# Altium footprint library RP3_V302.PcbLib: 39 footprints (part 3 of 3)
Each footprint in its own frame and in the unit in brackets; x right, y up, seen from the top. Pads: shape width x height; smd on the part's side, far side on the other; paste and mask are expansions set on the pad; w line width, h text height; cw(c..) or ccw(c..) is an arc to the next point about the centre after c.
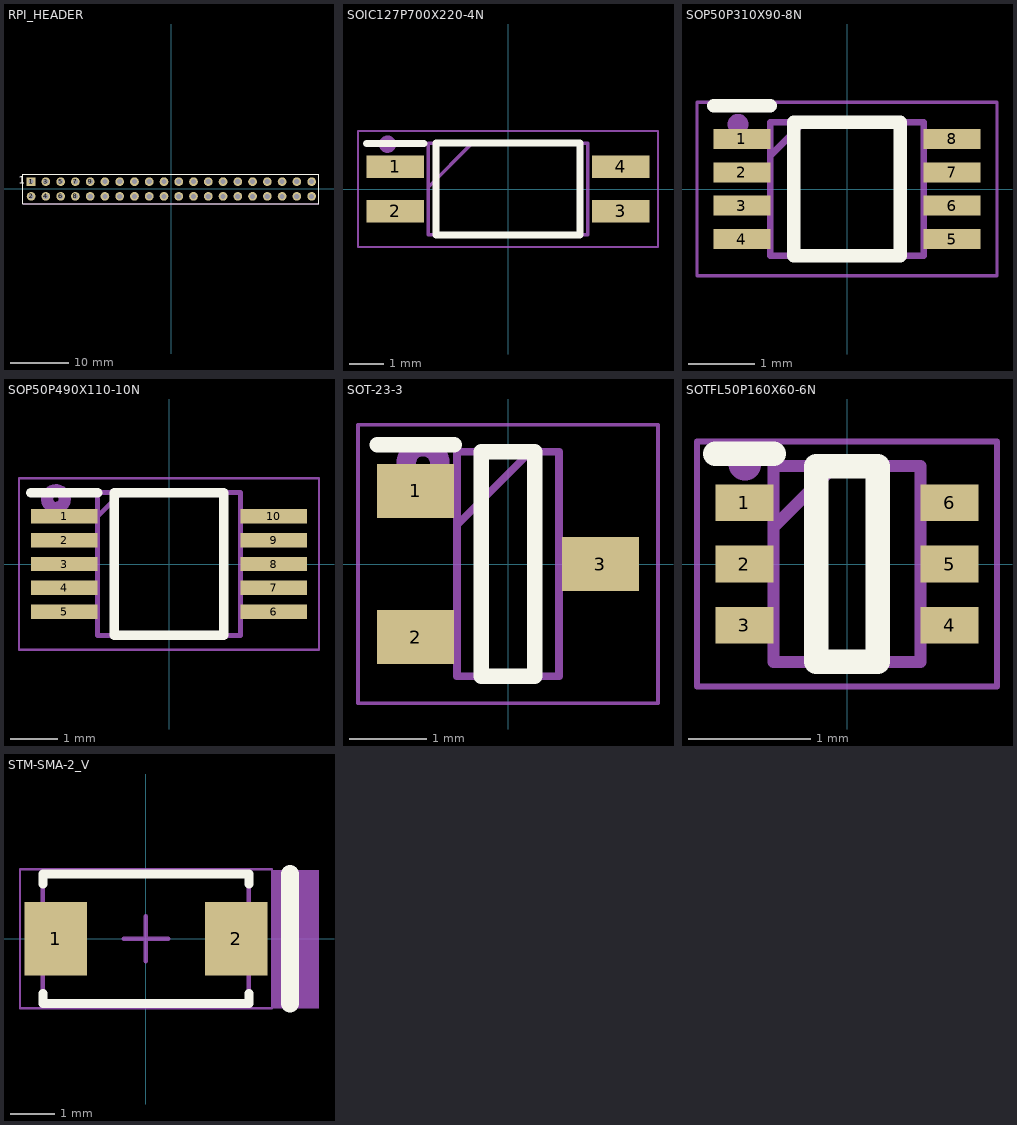
[diagram p2: the footprints below, top view; thin cyan lines are the x and y axes]

## RPI_HEADER [mm]
pads (40):
  rect 1.5x1.5 hole 0.9: 1(-24.13,1.27)
  round 1.5 hole 0.9: 2(-24.13,-1.27) 3(-21.59,1.27) 4(-21.59,-1.27) 5(-19.05,1.27) 6(-19.05,-1.27) 7(-16.51,1.27) 8(-16.51,-1.27) 9(-13.97,1.27) 10(-13.97,-1.27) 11(-11.43,1.27) 12(-11.43,-1.27) 13(-8.89,1.27) 14(-8.89,-1.27) 15(-6.35,1.27) 16(-6.35,-1.27) 17(-3.81,1.27) 18(-3.81,-1.27) 19(-1.27,1.27) 20(-1.27,-1.27) 21(1.27,1.27) 22(1.27,-1.27) 23(3.81,1.27) 24(3.81,-1.27) 25(6.35,1.27) 26(6.35,-1.27) 27(8.89,1.27) 28(8.89,-1.27) 29(11.43,1.27) 30(11.43,-1.27) 31(13.97,1.27) 32(13.97,-1.27) 33(16.51,1.27) 34(16.51,-1.27) 35(19.05,1.27) 36(19.05,-1.27) 37(21.59,1.27) 38(21.59,-1.27) 39(24.13,1.27) 40(24.13,-1.27)
Top Overlay:
  lines w0.2: -25.527,-2.54 25.4,-2.54 25.4,2.54 -25.527,2.54 -25.527,-2.54
  text "1" at -26.212,0.865 h1.27
Bottom Overlay:
  lines w0.2: -25.527,-2.54 25.4,-2.54 25.4,2.54 -25.527,2.54 -25.527,-2.54
  text "1" at -26,1 h1.27
Top Assembly (Mech29):
  circle w0.254: c-24.051,1.284 r0.5
  lines w0.2: -25.527,-2.54 25.4,-2.54 25.4,2.54 -25.527,2.54 -25.527,-2.54
  text "'.Designator'" at -8.246,-0.323 h1.27
3D body "female_header_a-bl254-dg-z32d.stp": height 8.5, standoff -3.2, extent -25.5,-2.5 15.39,2.5
3D body "female_header_a-bl254-dg-z32d.stp": height 8.51, standoff -3.19, extent -15.445,-2.5 25.445,2.5

## SOIC127P700X220-4N [mm]
pads (4):
  rect 1.65x0.65 smd: 1(-3.25,0.635) 2(-3.25,-0.635) 3(3.25,-0.635) 4(3.25,0.635)
Top Overlay:
  lines w0.2: -4.075,1.31 -2.425,1.31 ; -2.075,-1.325 2.075,-1.325 2.075,1.325 -2.075,1.325 -2.075,-1.325
Mechanical 13:
  lines w0.1: -2.3,0.055 -1.03,1.325 ; -2.3,-1.325 2.3,-1.325 2.3,1.325 -2.3,1.325 -2.3,-1.325
Mechanical 15:
  lines w0.05: -4.325,-1.675 4.325,-1.675 4.325,1.675 -4.325,1.675 -4.325,-1.675
Top Assembly (Mech29):
  circle w0.254: c-3.473,1.291 r0.121
  lines w0.05: -4.325,-1.675 4.325,-1.675 4.325,1.675 -4.325,1.675 -4.325,-1.675
  text "'.Designator'" at -3.965,-0.292 h0.7
3D body "TLP292(GB-TPL,E.stp": height 2.2, standoff 0, extent -3.5,-1.325 3.5,1.325

## SOP50P310X90-8N [mm]
pads (8):
  rect 0.85x0.3 smd: 1(-1.575,0.75) 2(-1.575,0.25) 3(-1.575,-0.25) 4(-1.575,-0.75) 5(1.575,-0.75) 6(1.575,-0.25) 7(1.575,0.25) 8(1.575,0.75)
Top Overlay:
  lines w0.2: -2,1.25 -1.15,1.25 ; -0.8,-1 -0.8,1 0.8,1 0.8,-1 -0.8,-1
Mechanical 13:
  lines w0.1: -1.15,0.5 -0.65,1 ; -1.15,-1 -1.15,1 1.15,1 1.15,-1 -1.15,-1
Mechanical 15:
  lines w0.05: -2.25,-1.3 -2.25,1.3 2.25,1.3 2.25,-1.3 -2.25,-1.3
Top Assembly (Mech29):
  circle w0.254: c-1.635,0.973 r0.028
  lines w0.05: -2.25,-1.3 -2.25,1.3 2.25,1.3 2.25,-1.3 -2.25,-1.3
  text "'.Designator'" at -3.965,-0.292 h0.7
3D body "ADS7042IDCUR.stp": height 0.9, standoff 0, extent -1.55,-1 1.55,1

## SOP50P490X110-10N [mm]
pads (10):
  rect 1.4x0.3 smd: 1(-2.2,1) 2(-2.2,0.5) 3(-2.2,0) 4(-2.2,-0.5) 5(-2.2,-1) 6(2.2,-1) 7(2.2,-0.5) 8(2.2,0) 9(2.2,0.5) 10(2.2,1)
Top Overlay:
  lines w0.2: -2.9,1.5 -1.5,1.5 ; -1.15,-1.5 1.15,-1.5 1.15,1.5 -1.15,1.5 -1.15,-1.5
Mechanical 13:
  lines w0.1: -1.5,1 -1,1.5 ; -1.5,-1.5 1.5,-1.5 1.5,1.5 -1.5,1.5 -1.5,-1.5
Mechanical 15:
  lines w0.05: -3.15,-1.8 3.15,-1.8 3.15,1.8 -3.15,1.8 -3.15,-1.8
Top Assembly (Mech29):
  circle w0.254: c-2.374,1.363 r0.185
  lines w0.05: -3.15,-1.8 3.15,-1.8 3.15,1.8 -3.15,1.8 -3.15,-1.8
  text "'.Designator'" at -3.965,-0.292 h0.7
3D body "ADS1015BQDGSRQ1.stp": height 1.1, standoff 0, extent -2.45,-1.5 2.45,1.5

## SOT-23-3 [mm]
pads (3):
  rect 1x0.7 smd: 1(-1.2,0.95) 2(-1.2,-0.95) 3(1.2,0)
Top Overlay:
  lines w0.2: -1.7,1.55 -0.7,1.55 ; -0.35,-1.46 0.35,-1.46 0.35,1.46 -0.35,1.46 -0.35,-1.46
Mechanical 13:
  lines w0.1: -0.662,0.51 0.288,1.46 ; -0.662,-1.46 0.662,-1.46 0.662,1.46 -0.662,1.46 -0.662,-1.46
Mechanical 15:
  lines w0.05: -1.95,-1.81 1.95,-1.81 1.95,1.81 -1.95,1.81 -1.95,-1.81
Top Assembly (Mech29):
  circle w0.254: c-1.105,1.307 r0.22
  lines w0.05: -1.95,-1.81 1.95,-1.81 1.95,1.81 -1.95,1.81 -1.95,-1.81
  text "'.Designator'" at -0.292,3.965 h0.7
3D body "BSS138.stp": height 1.2, standoff 0, extent -1.2,-1.46 1.2,1.46

## SOTFL50P160X60-6N [mm]
pads (6):
  rect 0.475x0.3 smd: 1(-0.838,0.5) 2(-0.838,0) 3(-0.838,-0.5) 4(0.838,-0.5) 5(0.838,0) 6(0.838,0.5)
Top Overlay:
  lines w0.2: -1.075,0.9 -0.6,0.9 ; -0.25,-0.8 0.25,-0.8 0.25,0.8 -0.25,0.8 -0.25,-0.8
Mechanical 13:
  lines w0.1: -0.6,0.3 -0.1,0.8 ; -0.6,-0.8 0.6,-0.8 0.6,0.8 -0.6,0.8 -0.6,-0.8
Mechanical 15:
  lines w0.05: -1.225,-1 1.225,-1 1.225,1 -1.225,1 -1.225,-1
Top Assembly (Mech29):
  circle w0.254: c-0.834,0.813 r0.004
  lines w0.05: -1.225,-1 1.225,-1 1.225,1 -1.225,1 -1.225,-1
  text "'.Designator'" at -2.832,-0.208 h0.5
3D body "INA185A1IDRLR.stp": height 0.6, standoff 0, extent -0.8,-0.8 0.8,0.8

## STM-SMA-2_V [mm] "Diode, 2-Leads, Body 4.6x2.9mm"
height 2.585
pads (2):
  rect 1.4x1.64 smd: 1(-2.015,0) 2(2.015,0)
Top Overlay:
  lines w0.2: -2.3,-1.22 -2.3,-1.45 2.3,-1.45 2.3,-1.22 ; -2.3,1.22 -2.3,1.45 2.3,1.45 2.3,1.22
  lines w0.4: 3.215,-1.45 3.215,1.45
Mechanical 13:
  lines w0.1: -2.3,-1.45 2.3,-1.45 2.3,1.45 -2.3,1.45 -2.3,-1.45
Mechanical 15:
  lines w0.05: -2.815,-1.55 2.815,-1.55 2.815,1.55 -2.815,1.55 -2.815,-1.55
  lines w0.1: -0.5,0 0.5,0 ; 0,-0.5 0,0.5
Top Assembly (Mech29):
  rectangle: 2.798,-1.56 3.865,1.534
  lines w0.05: -2.815,-1.55 2.815,-1.55 2.815,1.55 -2.815,1.55 -2.815,-1.55
  text "'.Designator'" at -3.965,-0.292 h0.7
3D body: height 2.59, standoff 0.05, extent -2.3,-1.45 2.3,1.45
3D body: height 2.59, standoff 2.59, extent 0.8,-1.45 1,1.45